# Altium schematic symbol library Core Board.SchLib: 1 symbol
Pins are listed as number, name and electrical type; pins without a type are passive.

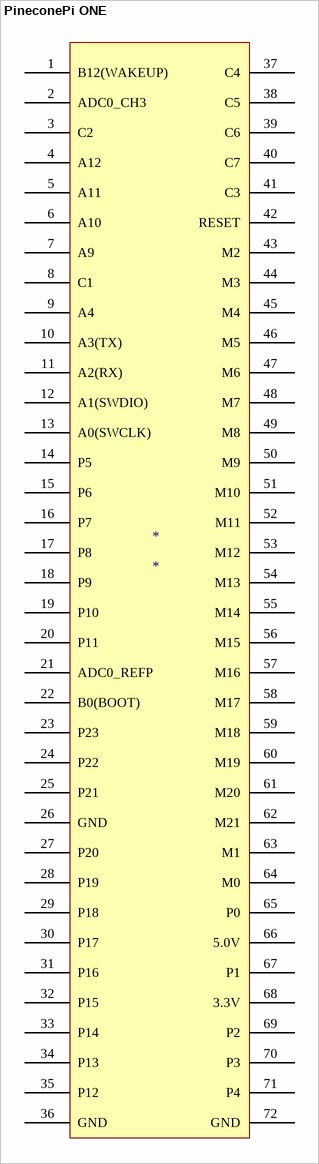
[diagram p0: symbol PineconePi ONE]

## PineconePi ONE
designator *
footprint Core Board (PineconePi ONE)
pins: 1 B12(WAKEUP), 2 ADC0_CH3, 3 C2, 4 A12, 5 A11, 6 A10, 7 A9, 8 C1, 9 A4, 10 A3(TX), 11 A2(RX), 12 A1(SWDIO), 13 A0(SWCLK), 14 P5, 15 P6, 16 P7, 17 P8, 18 P9, 19 P10, 20 P11, 21 ADC0_REFP, 22 B0(BOOT), 23 P23, 24 P22, 25 P21, 26 GND, 27 P20, 28 P19, 29 P18, 30 P17, 31 P16, 32 P15, 33 P14, 34 P13, 35 P12, 36 GND, 37 C4, 38 C5, 39 C6, 40 C7, 41 C3, 42 RESET, 43 M2, 44 M3, 45 M4, 46 M5, 47 M6, 48 M7, 49 M8, 50 M9, 51 M10, 52 M11, 53 M12, 54 M13, 55 M14, 56 M15, 57 M16, 58 M17, 59 M18, 60 M19, 61 M20, 62 M21, 63 M1, 64 M0, 65 P0, 66 5.0V, 67 P1, 68 3.3V, 69 P2, 70 P3, 71 P4, 72 GND